# Altium footprint library CartridgeBondingFinger.PcbLib: 1 footprints
Each footprint in its own frame and in the unit in brackets; x right, y up, seen from the top. Pads: shape width x height; smd on the part's side, far side on the other; paste and mask are expansions set on the pad; w line width, h text height; cw(c..) or ccw(c..) is an arc to the next point about the centre after c.
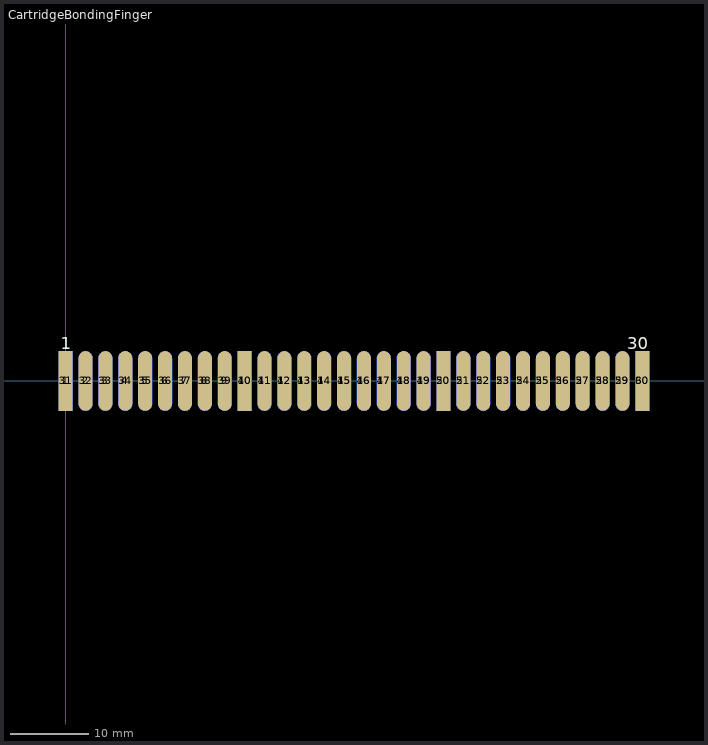
[diagram p0: the footprint, top view; thin cyan lines are the x and y axes]

## CartridgeBondingFinger [mil]
height 300
pads (60):
  rect 70x300 smd: 1(0,0) 10(900,0) 20(1900,0) 30(2900,0)
  oval 70x300 smd: 2(100,0) 3(200,0) 4(300,0) 5(400,0) 6(500,0) 7(600,0) 8(700,0) 9(800,0) 11(1000,0) 12(1100,0) 13(1200,0) 14(1300,0) 15(1400,0) 16(1500,0) 17(1600,0) 18(1700,0) 19(1800,0) 21(2000,0) 22(2100,0) 23(2200,0) 24(2300,0) 25(2400,0) 26(2500,0) 27(2600,0) 28(2700,0) 29(2800,0)
  rect 70x300 smd far side: 31(0,0) 40(900,0) 50(1900,0) 60(2900,0)
  oval 70x300 smd far side: 32(100,0) 33(200,0) 34(300,0) 35(400,0) 36(500,0) 37(600,0) 38(700,0) 39(800,0) 41(1000,0) 42(1100,0) 43(1200,0) 44(1300,0) 45(1400,0) 46(1500,0) 47(1600,0) 48(1700,0) 49(1800,0) 51(2000,0) 52(2100,0) 53(2200,0) 54(2300,0) 55(2400,0) 56(2500,0) 57(2600,0) 58(2700,0) 59(2800,0)
Top Overlay:
  text "1" at -25,160 h60
  text "30" at 2825,160 h60
Bottom Overlay:
  text "31" at 55,160 h60
  text "60" at 2925,160 h60